# Altium integrated library Audio - Speakers.IntLib: 5 symbols
Pins are listed as number, name and electrical type; pins without a type are passive.

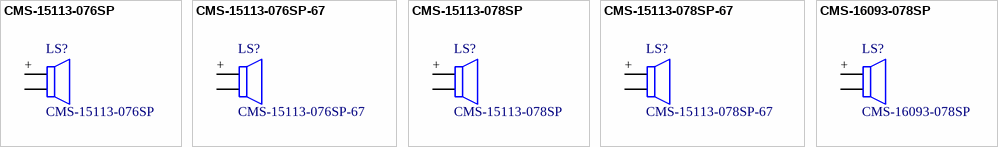
[diagram p0: symbols CMS-15113-076SP to CMS-16093-078SP]

## CMS-15113-076SP
designator LS?
SPEAKER, 15 X 11 MM, 3 MM DEEP,; Manufacturer: CUI Devices; Efficiency - dBA: 92.00; Efficiency - Testing: 700mW/100mm; Efficiency - Type: Sound Pressure Level (SPL); Frequency Range: 100Hz ~ 20kHz; Frequency - Self Resonant: 600Hz; Impedance: 6 Ohms; Material - Cone: Polyester, Polyethylene Terephthalate (PET); Material - Magnet: Nd-Fe-B; Port Location: Top; Power - Max: 1W; Power - Rated: 700mW; Shape: Rectangular; Part Number: CMS-15113-076SP; ComponentLink1Description: Datasheet; ComponentLink1URL: https://www.cuidevices.com/product/resource/digikeypdf/cms-15113-076x.pdf; ComponentLink2Description: DigiKey Link; ComponentLink2URL: http://digikey.com/product-detail/en/cui-devices/CMS-15113-076SP/102-4627-ND/8581461; Height - Seated (Max): 0.118" (3.00mm); LastUpdated: 9/6/2020 11:51:05 AM; Lifecycle Status: Active; Minimum Order: 1; Packaging: Tray; Part Status: Active; Price: 2.04; Series: CMS; Size / Dimension: 0.591" L x 0.433" W (15.00mm x 11.00mm); Supplier 1: DigiKey; Supplier Part Number 1: 102-4627-ND; Technology: Magnetic; Termination: Solder Pads; Type: General Purpose
footprint CUI CMS-15113-078SP
pins: +, -

## CMS-15113-076SP-67
designator LS?
SPEAKER, 15 X 11 MM, 3 MM DEEP,; Manufacturer: CUI Devices; Efficiency - dBA: 92.00; Efficiency - Testing: 700mW/100mm; Efficiency - Type: Sound Pressure Level (SPL); Frequency Range: 100Hz ~ 20kHz; Frequency - Self Resonant: 600Hz; Impedance: 6 Ohms; Ingress Protection: IP67 - Dust Tight, Waterproof; Material - Cone: Polyester, Polyethylene Terephthalate (PET); Material - Magnet: Nd-Fe-B; Port Location: Top; Power - Max: 1W; Power - Rated: 700mW; Shape: Rectangular; Part Number: CMS-15113-076SP-67; ComponentLink1Description: Datasheet; ComponentLink1URL: https://www.cuidevices.com/product/resource/digikeypdf/cms-15113-076x-67.pdf; ComponentLink2Description: DigiKey Link; ComponentLink2URL: http://digikey.com/product-detail/en/cui-devices/CMS-15113-076SP-67/102-4997-ND/9561099; Height - Seated (Max): 0.118" (3.00mm); LastUpdated: 9/6/2020 11:51:20 AM; Lifecycle Status: Active; Minimum Order: 1; Packaging: Tray; Part Status: Active; Price: 2.17; Series: CMS; Size / Dimension: 0.591" L x 0.433" W (15.00mm x 11.00mm); Supplier 1: DigiKey; Supplier Part Number 1: 102-4997-ND; Technology: Magnetic; Termination: Solder Pads; Type: General Purpose
footprint CUI CMS-15113-078SP
pins: +, -

## CMS-15113-078SP
designator LS?
SPEAKER, 15 X 11 MM, 3 MM DEEP,; Manufacturer: CUI Devices; Efficiency - dBA: 91.00; Efficiency - Testing: 700mW/100mm; Efficiency - Type: Sound Pressure Level (SPL); Frequency Range: 100Hz ~ 20kHz; Frequency - Self Resonant: 700Hz; Impedance: 8 Ohms; Material - Cone: Polyester, Polyethylene Terephthalate (PET); Material - Magnet: Nd-Fe-B; Port Location: Top; Power - Max: 1W; Power - Rated: 700mW; Shape: Rectangular; Part Number: CMS-15113-078SP; ComponentLink1Description: Datasheet; ComponentLink1URL: https://www.cuidevices.com/product/resource/digikeypdf/cms-15113-078x.pdf; ComponentLink2Description: DigiKey Link; ComponentLink2URL: http://digikey.com/product-detail/en/cui-devices/CMS-15113-078SP/102-5644-ND/8581915; Height - Seated (Max): 0.118" (3.00mm); LastUpdated: 9/6/2020 11:52:26 AM; Lifecycle Status: Active; Minimum Order: 1; Packaging: Unknown; Part Status: Active; Price: 2.04; Series: CMS; Size / Dimension: 0.591" L x 0.433" W (15.00mm x 11.00mm); Supplier 1: DigiKey; Supplier Part Number 1: 102-5644-ND; Technology: Magnetic; Termination: Solder Pads; Type: General Purpose
footprint CUI CMS-15113-078SP
pins: +, -

## CMS-15113-078SP-67
designator LS?
SPEAKER, 15 X 11 MM, 3 MM DEEP,; Manufacturer: CUI Devices; Efficiency - dBA: 91.00; Efficiency - Testing: 700mW/100mm; Efficiency - Type: Sound Pressure Level (SPL); Frequency Range: 100Hz ~ 20kHz; Frequency - Self Resonant: 700Hz; Impedance: 8 Ohms; Ingress Protection: IP67 - Dust Tight, Waterproof; Material - Cone: Polyester, Polyethylene Terephthalate (PET); Material - Magnet: Nd-Fe-B; Port Location: Top; Power - Max: 1W; Power - Rated: 700mW; Shape: Rectangular; Part Number: CMS-15113-078SP-67; ComponentLink1Description: Datasheet; ComponentLink1URL: https://www.cuidevices.com/product/resource/digikeypdf/cms-15113-078x-67.pdf; ComponentLink2Description: DigiKey Link; ComponentLink2URL: http://digikey.com/product-detail/en/cui-devices/CMS-15113-078SP-67/102-5001-ND/9561103; Height - Seated (Max): 0.118" (3.00mm); LastUpdated: 9/6/2020 11:52:13 AM; Lifecycle Status: Active; Minimum Order: 1; Packaging: Tray; Part Status: Active; Price: 2.17; Series: CMS; Size / Dimension: 0.591" L x 0.433" W (15.00mm x 11.00mm); Supplier 1: DigiKey; Supplier Part Number 1: 102-5001-ND; Technology: Magnetic; Termination: Solder Pads; Type: General Purpose
footprint CUI CMS-15113-078SP
pins: +, -

## CMS-16093-078SP
designator LS?
SPEAKER, 16 X 9 MM, 3 MM DEEP, M; Manufacturer: CUI Devices; Efficiency - dBA: 91.00; Efficiency - Testing: 700mW/100mm; Efficiency - Type: Sound Pressure Level (SPL); Frequency Range: 100Hz ~ 20kHz; Frequency - Self Resonant: 550Hz; Impedance: 8 Ohms; Material - Cone: Polyester, Polyethylene Terephthalate (PET); Material - Magnet: Nd-Fe-B; Port Location: Top; Power - Max: 1W; Power - Rated: 700mW; Shape: Rectangular; Part Number: CMS-16093-078SP; ComponentLink1Description: Datasheet; ComponentLink1URL: https://www.cuidevices.com/product/resource/digikeypdf/cms-16093-078x.pdf; ComponentLink2Description: DigiKey Link; ComponentLink2URL: http://digikey.com/product-detail/en/cui-devices/CMS-16093-078SP/102-4622-ND/8581456; Height - Seated (Max): 0.118" (3.00mm); LastUpdated: 9/6/2020 11:49:35 AM; Lifecycle Status: Active; Minimum Order: 1; Packaging: Tray; Part Status: Active; Price: 2.04; Series: CMS; Size / Dimension: 0.630" L x 0.354" W (16.00mm x 9.00mm); Supplier 1: DigiKey; Supplier Part Number 1: 102-4622-ND; Technology: Magnetic; Termination: Solder Pads; Type: General Purpose
footprint CUI CMS-16093-078SP
pins: +, -